# Altium schematic symbol library Schlib1.SchLib: 5 symbols
Pins are listed as number, name and electrical type; pins without a type are passive.

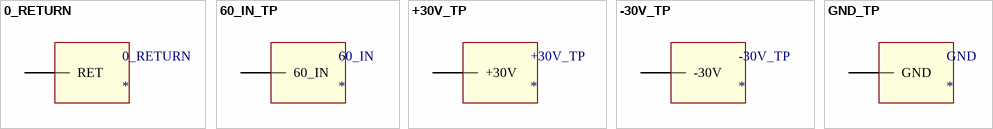
[diagram p0: symbols 0_RETURN to GND_TP]

## 0_RETURN
designator 0_RETURN
footprint 0_RETURN
pins: RET

## 60_IN_TP
designator 60_IN
footprint 60_IN_TP
pins: 60_IN

## +30V_TP
designator +30V_TP
footprint +30V_TP
pins: +30V

## -30V_TP
designator -30V_TP
footprint -30V_TP
pins: -30V

## GND_TP
designator GND
footprint GND_TP
pins: GND